# Altium schematic symbol library TRANSISTORS.SchLib: 10 symbols
Pins are listed as number, name and electrical type; pins without a type are passive.

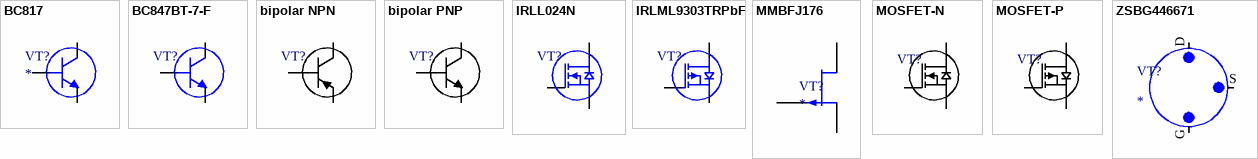
[diagram p0: symbols BC817 to ZSBG446671]

## BC817
designator VT?
footprint SOT95P245X110-3L (SOT23, 3-Leads, Body 2,90x2,45mm, Pitch 0,95mm, IPC High Density)
pins: 1 B, 2 E, 3 C

## BC847BT-7-F
designator VT?
45V NPN SMALL SIGNAL TRANSISTOR IN SOT523; ComponentLink1Description: digikey; ComponentLink1URL: https://www.digikey.com/product-detail/en/diodes-incorporated/BC847BT-7-F/BC847BT-FDICT-ND/815375
footprint SOT95P245X110-3L (SOT23, 3-Leads, Body 2,90x2,45mm, Pitch 0,95mm, IPC High Density)
pins: 1 B, 2 E, 3 C

## bipolar NPN
designator VT?  (value not drawn)
pins: 1 B, 2 E, 3 C

## bipolar PNP
designator VT?  (value not drawn)
pins: 1 B, 2 E, 3 C

## IRLL024N
designator VT?, comment Power MOSFET  (value not drawn)
footprint SOT23 - MOSFET (SOT223, 4-Leads, Body 6,50x7,00mm (avg), Pitch 2,30mm, IPC Medium Density)
pins: 1 G, 2 D, 3 S

## IRLML9303TRPbF
designator VT?
HEXFETPower MOSFET
footprint SOT95P245X110-3L (SOT23, 3-Leads, Body 2,90x2,45mm, Pitch 0,95mm, IPC High Density)
pins: 1 G, 2 S, 3 D

## MMBFJ176
designator VT?
footprint SOT95P245X110-3L (SOT23, 3-Leads, Body 2,90x2,45mm, Pitch 0,95mm, IPC High Density)
pins: 1 S, 2 D, 3 G

## MOSFET-N
designator VT?  (value not drawn)
pins: 1 G, 2 D, 3 S

## MOSFET-P
designator VT?  (value not drawn)
pins: 1 G, 2 D, 3 S

## ZSBG446671
designator VT?
ZMOTION® Pyroelectric / Sensors
footprint PIR_3PIN
pins: D, G, S